# Altium footprint library TO.PcbLib: 3 footprints
Each footprint in its own frame and in the unit in brackets; x right, y up, seen from the top. Pads: shape width x height; smd on the part's side, far side on the other; paste and mask are expansions set on the pad; w line width, h text height; cw(c..) or ccw(c..) is an arc to the next point about the centre after c.
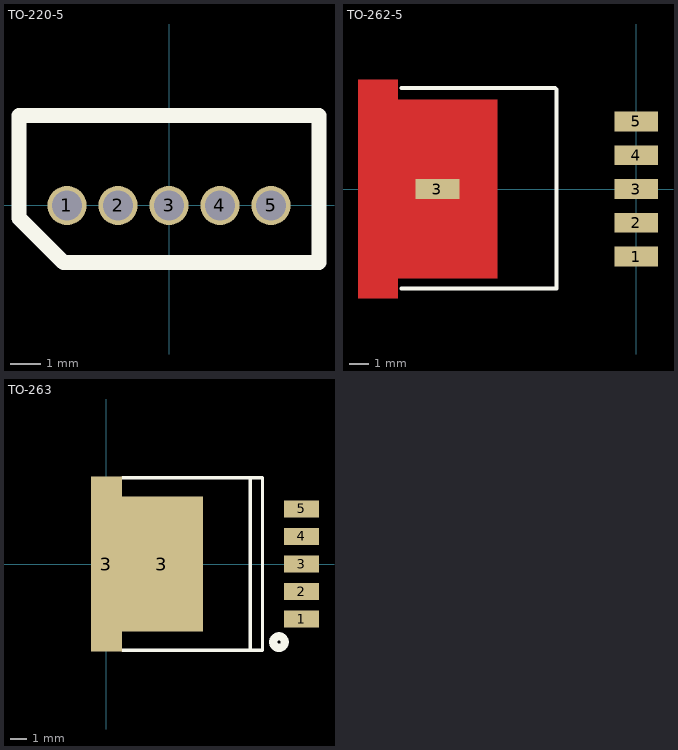
[diagram p0: the footprints below, top view; thin cyan lines are the x and y axes]

## TO-220-5 [mm]
pads (5):
  round 1.3 hole 1: 1(-3.4,0) 2(-1.7,0) 3(0,0) 4(1.7,0) 5(3.4,0)
Top Overlay:
  lines w0.508: -5,-0.425 -3.52,-1.905 5,-1.905 5,3 -5,3 -5,-0.425
3D body "User Library-to-220-5 v2.STEP": height 25, standoff -2.82, extent -5.03,-2 5.13,2.95

## TO-262-5 [mm]
pads (6):
  rect 2.2x1 smd: 1(0,-3.4) 2(0,-1.7) 3(-10,0) 3(0,0) 4(0,1.7) 5(0,3.4)
Top Layer:
  region: -14,5.5 -14,-5.5 -12,-5.5 -12,-4.5 -7,-4.5 -7,4.5 -12,4.5 -12,5.5
Top Overlay:
  lines w0.2: -11.811,-5 -4,-5 -4,5 ; -11.811,5.08 -4.08,5.08
3D body "User Library-TO-263-5.STEP": height 4.56, standoff 0, extent -13.478,-5.06 0.537,5.1

## TO-263 [mm]
pads (7):
  rect 2.16x1.07 smd: 1(12.065,-3.404) 2(12.065,-1.702) 3(12.065,0) 4(12.065,1.702) 5(12.065,3.404)
  rect 1.91x10.8 smd: 3(0,0)
  rect 5.08x8.33 smd: 3(3.429,0)
Top Overlay:
  circle w0.5: c10.668,-4.826 r0.359
  lines w0.2: 1.016,-5.334 9.652,-5.334 9.652,5.334 1.016,5.334 ; 8.89,-5.334 8.89,5.334
3D body "User Library-TO-263-5.STEP": height 4.56, standoff 0, extent -0.905,-5.06 13.11,5.1